# EAGLE library part TB6549PG (library TB6549PG-motor-controller)
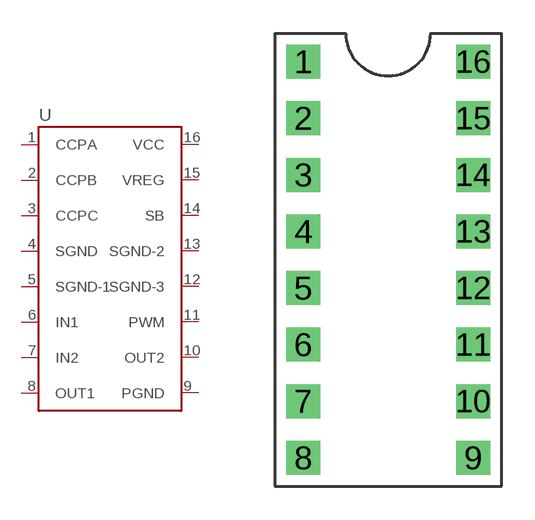
[diagram p0: symbol with the pads of TB6549PG; footprint TB6549PG]

Designator prefix -

## TB6549PG  [TB6549PG]
1  CCPA
2  CCPB
3  CCPC
4  SGND
5  SGND-1
6  IN1
7  IN2
8  OUT1
9  PGND
10  OUT2
11  PWM
12  SGND-3
13  SGND-2
14  SB
15  VREG
16  VCC

## Footprint TB6549PG (pad centres in mm)
drill 1.016 square: 1 -3.81,8.89; 2 -3.81,6.35; 3 -3.81,3.81; 4 -3.81,1.27; 5 -3.81,-1.27; 6 -3.81,-3.81; 7 -3.81,-6.35; 8 -3.81,-8.89; 9 3.81,-8.89; 10 3.81,-6.35; 11 3.81,-3.81; 12 3.81,-1.27; 13 3.81,1.27; 14 3.81,3.81; 15 3.81,6.35; 16 3.81,8.89